# Altium integrated library TI_Logic_Specialty_Logic.IntLib: 2504 symbols (part 68 of 81)
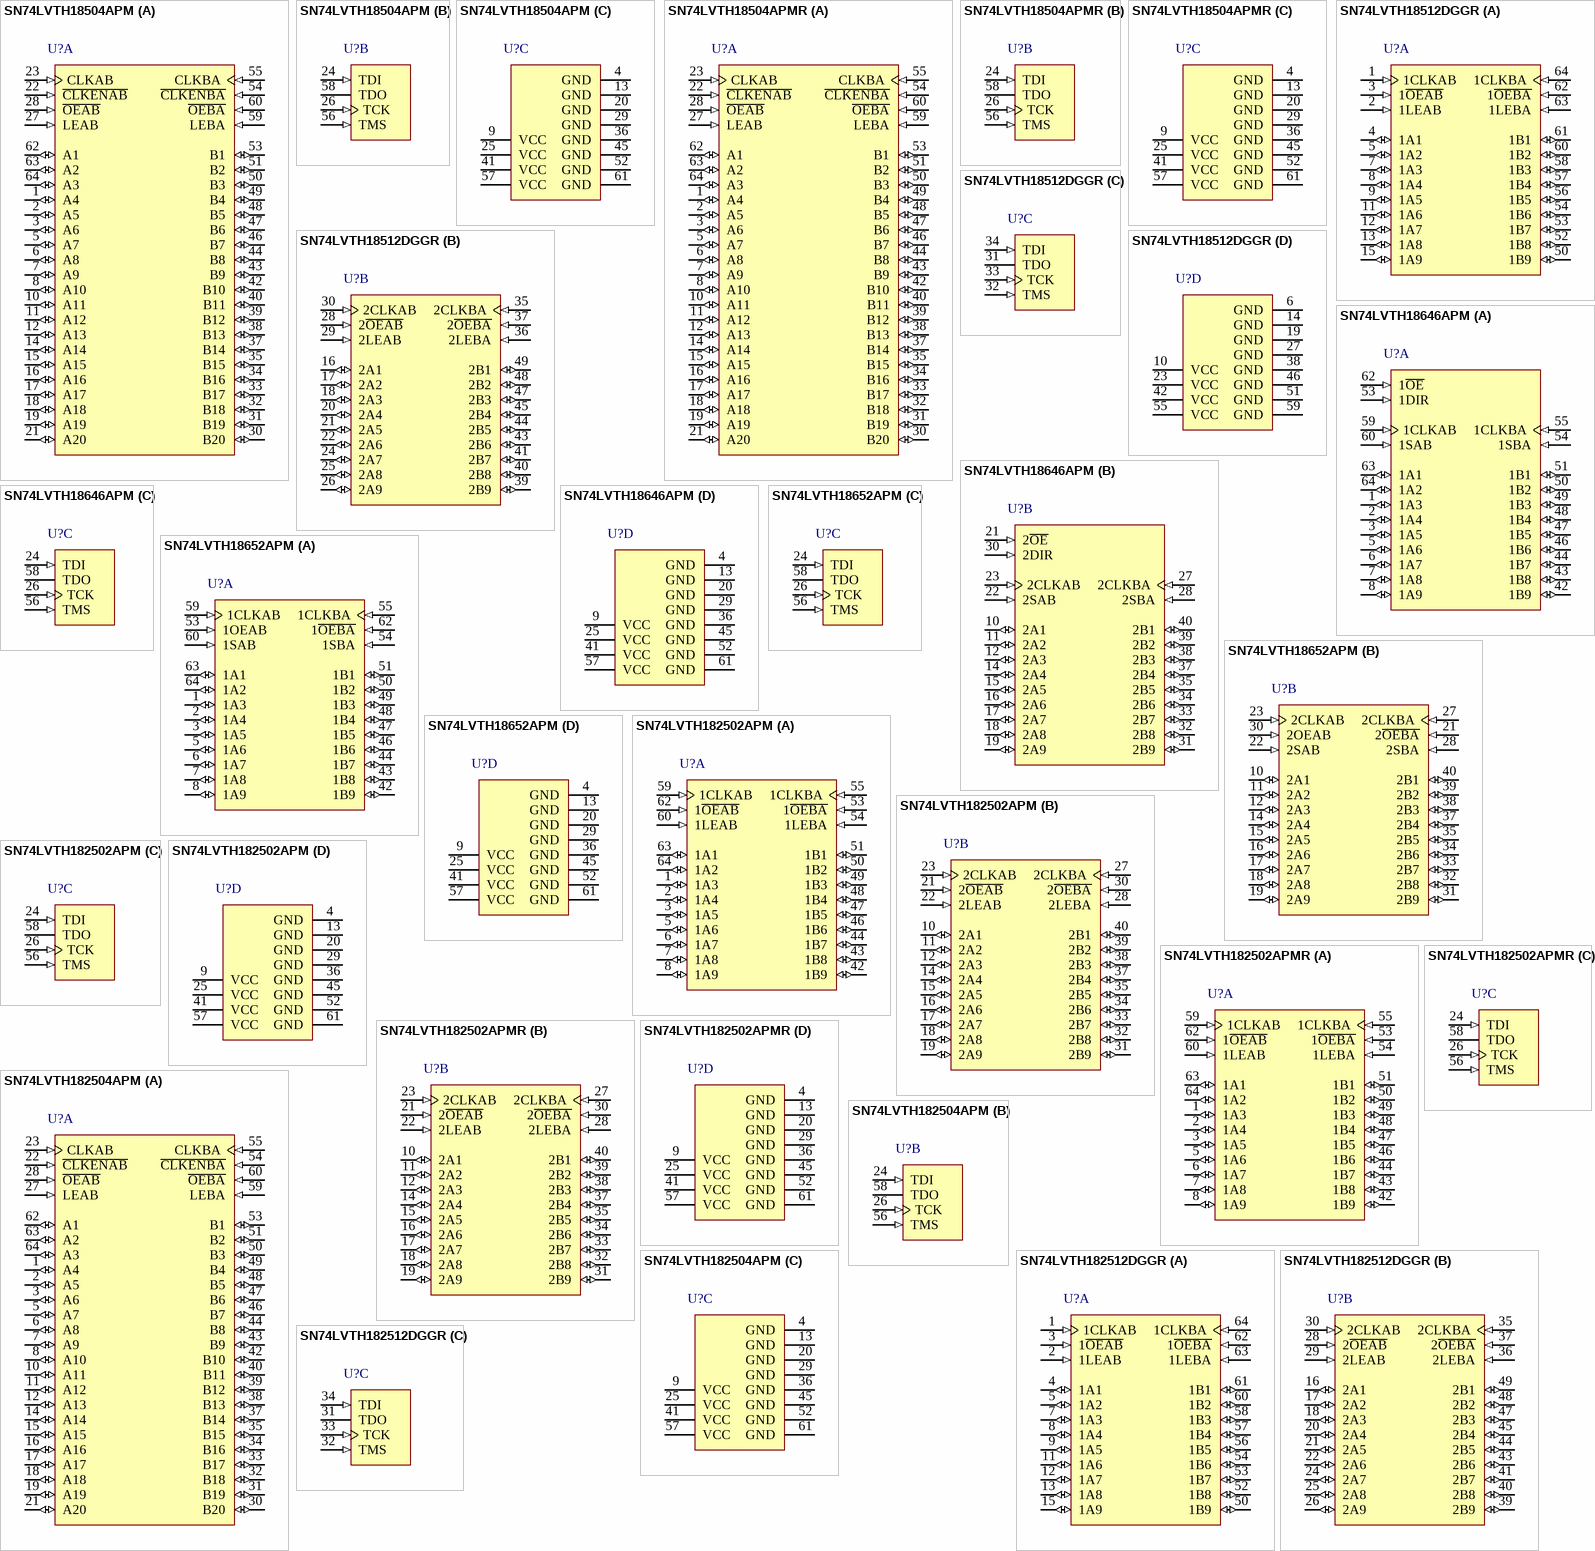
[diagram p171: symbols SN74LVTH18504APM to SN74LVTH182512DGGR]

## SN74LVTH182504APM
designator U?
3.3-V ABT Scan Test Devices With 20-Bit Universal Bus Transceivers, PM0064A, JEDEC TRAY (10+1); Generic Part Number: SN74LVTH182504A; Manufacturer: Texas Instruments; PartNumber: SN74LVTH182504APM; VCC(Min)(V): 2.7; VCC(Max)(V): 3.6; Output Type: TTL; ICC @ Nom Voltage(Max)(mA): 27; Bits(#): 20; F @ Nom Voltage(Max)(Mhz): 160; Rating: Catalog; Technology Family: LVT; Voltage(Nom)(V): 3.3; Output Drive (IOL/IOH)(Max)(mA): 64/-32; Output Logic: True; tpd @ Nom Voltage(Max)(ns): 5.9; DatasheetVersion: SCBS667B; PackageReference: PM0064A; Supplier 1: Mouser; Supplier Part Number 1: 595-SN74LVTH182504AP; Supplier 2: Digi-Key; Supplier Part Number 2: 296-8697-ND; Input Type: TTL; Operating Temperature Range(C): -40 to 85; ComponentLink1Description: Manufacturer URL; ComponentLink1URL: http://www.ti.com/; ComponentLink2Description: Datasheet; ComponentLink2URL: http://www.ti.com/lit/ds/symlink/sn74lvth182504a.pdf
footprint PM0064A_N (QFP, 64-Leads, Body 10x10mm, Pitch 0.5mm, IPC Medium Density)
footprint PM0064A_M (QFP, 64-Leads, Body 10x10mm, Pitch 0.5mm, IPC Low Density)
footprint PM0064A_L (QFP, 64-Leads, Body 10x10mm, Pitch 0.5mm, IPC High Density)
part A pins: 1 A4 (io) "Normal-function A-bus I/O ports. See function table for normal-mode logic.", 2 A5 (io) "Normal-function A-bus I/O ports. See function table for normal-mode logic.", 3 A6 (io) "Normal-function A-bus I/O ports. See function table for normal-mode logic.", 5 A7 (io) "Normal-function A-bus I/O ports. See function table for normal-mode logic.", 6 A8 (io) "Normal-function A-bus I/O ports. See function table for normal-mode logic.", 7 A9 (io) "Normal-function A-bus I/O ports. See function table for normal-mode logic.", 8 A10 (io) "Normal-function A-bus I/O ports. See function table for normal-mode logic.", 10 A11 (io) "Normal-function A-bus I/O ports. See function table for normal-mode logic.", 11 A12 (io) "Normal-function A-bus I/O ports. See function table for normal-mode logic.", 12 A13 (io) "Normal-function A-bus I/O ports. See function table for normal-mode logic.", 14 A14 (io) "Normal-function A-bus I/O ports. See function table for normal-mode logic.", 15 A15 (io) "Normal-function A-bus I/O ports. See function table for normal-mode logic.", 16 A16 (io) "Normal-function A-bus I/O ports. See function table for normal-mode logic.", 17 A17 (io) "Normal-function A-bus I/O ports. See function table for normal-mode logic.", 18 A18 (io) "Normal-function A-bus I/O ports. See function table for normal-mode logic.", 19 A19 (io) "Normal-function A-bus I/O ports. See function table for normal-mode logic.", 21 A20 (io) "Normal-function A-bus I/O ports. See function table for normal-mode logic.", 22 ~{CLKENAB} (in) "Normal-function clock enables. See function table for normal-mode logic", 23 CLKAB (in) "Normal-function clock inputs. See function table for normal-mode logic.", 27 LEAB (in) "Normal-function latch enables. See function table for normal-mode logic", 28 ~{OEAB} (in) "Normal-function output enables. See function table for normal-mode logic. An internal pullup at each terminal forces the terminal to a high level if left unconnected.", 30 B20 (io) "Normal-function B-bus I/O ports. See function table for normal-mode logic.", 31 B19 (io) "Normal-function B-bus I/O ports. See function table for normal-mode logic.", 32 B18 (io) "Normal-function B-bus I/O ports. See function table for normal-mode logic.", 33 B17 (io) "Normal-function B-bus I/O ports. See function table for normal-mode logic.", 34 B16 (io) "Normal-function B-bus I/O ports. See function table for normal-mode logic.", 35 B15 (io) "Normal-function B-bus I/O ports. See function table for normal-mode logic.", 37 B14 (io) "Normal-function B-bus I/O ports. See function table for normal-mode logic.", 38 B13 (io) "Normal-function B-bus I/O ports. See function table for normal-mode logic.", 39 B12 (io) "Normal-function B-bus I/O ports. See function table for normal-mode logic.", 40 B11 (io) "Normal-function B-bus I/O ports. See function table for normal-mode logic.", 42 B10 (io) "Normal-function B-bus I/O ports. See function table for normal-mode logic.", 43 B9 (io) "Normal-function B-bus I/O ports. See function table for normal-mode logic.", 44 B8 (io) "Normal-function B-bus I/O ports. See function table for normal-mode logic.", 46 B7 (io) "Normal-function B-bus I/O ports. See function table for normal-mode logic.", 47 B6 (io) "Normal-function B-bus I/O ports. See function table for normal-mode logic.", 48 B5 (io) "Normal-function B-bus I/O ports. See function table for normal-mode logic.", 49 B4 (io) "Normal-function B-bus I/O ports. See function table for normal-mode logic.", 50 B3 (io) "Normal-function B-bus I/O ports. See function table for normal-mode logic.", 51 B2 (io) "Normal-function B-bus I/O ports. See function table for normal-mode logic.", 53 B1 (io) "Normal-function B-bus I/O ports. See function table for normal-mode logic.", 54 ~{CLKENBA} (in) "Normal-function clock enables. See function table for normal-mode logic", 55 CLKBA (in) "Normal-function clock inputs. See function table for normal-mode logic.", 59 LEBA (in) "Normal-function latch enables. See function table for normal-mode logic", 60 ~{OEBA} (in) "Normal-function output enables. See function table for normal-mode logic. An internal pullup at each terminal forces the terminal to a high level if left unconnected.", 62 A1 (io) "Normal-function A-bus I/O ports. See function table for normal-mode logic.", 63 A2 (io) "Normal-function A-bus I/O ports. See function table for normal-mode logic.", 64 A3 (io) "Normal-function A-bus I/O ports. See function table for normal-mode logic."
part B pins: 24 TDI (in) "Test data input. One of four terminals required by IEEE Std 1149.1-1990. TDI is the serial input for shifting data through the instruction register or selected data register. An internal pullup forces TDI to a high level if (See Datasheet)", 26 TCK (in) "Test clock. One of four terminals required by IEEE Std 1149.1-1990. Test operations of the device are synchronous to TCK. Data is captured on the rising edge of TCK and outputs change on the falling edge of TCK.", 56 TMS (in) "Test mode select. One of four terminals required by IEEE Std 1149.1-1990. TMS directs the device through its TAP controller states. An internal pullup forces TMS to a high level if left unconnected.", 58 TDO (hiz) "Test data output. One of four terminals required by IEEE Std 1149.1-1990. TDO is the serial output for shifting data through the instruction register or selected data register."
part C pins: 4 GND (power) "Ground", 9 VCC (power) "Supply voltage", 13 GND (power) "Ground", 20 GND (power) "Ground", 25 VCC (power) "Supply voltage", 29 GND (power) "Ground", 36 GND (power) "Ground", 41 VCC (power) "Supply voltage", 45 GND (power) "Ground", 52 GND (power) "Ground", 57 VCC (power) "Supply voltage", 61 GND (power) "Ground"

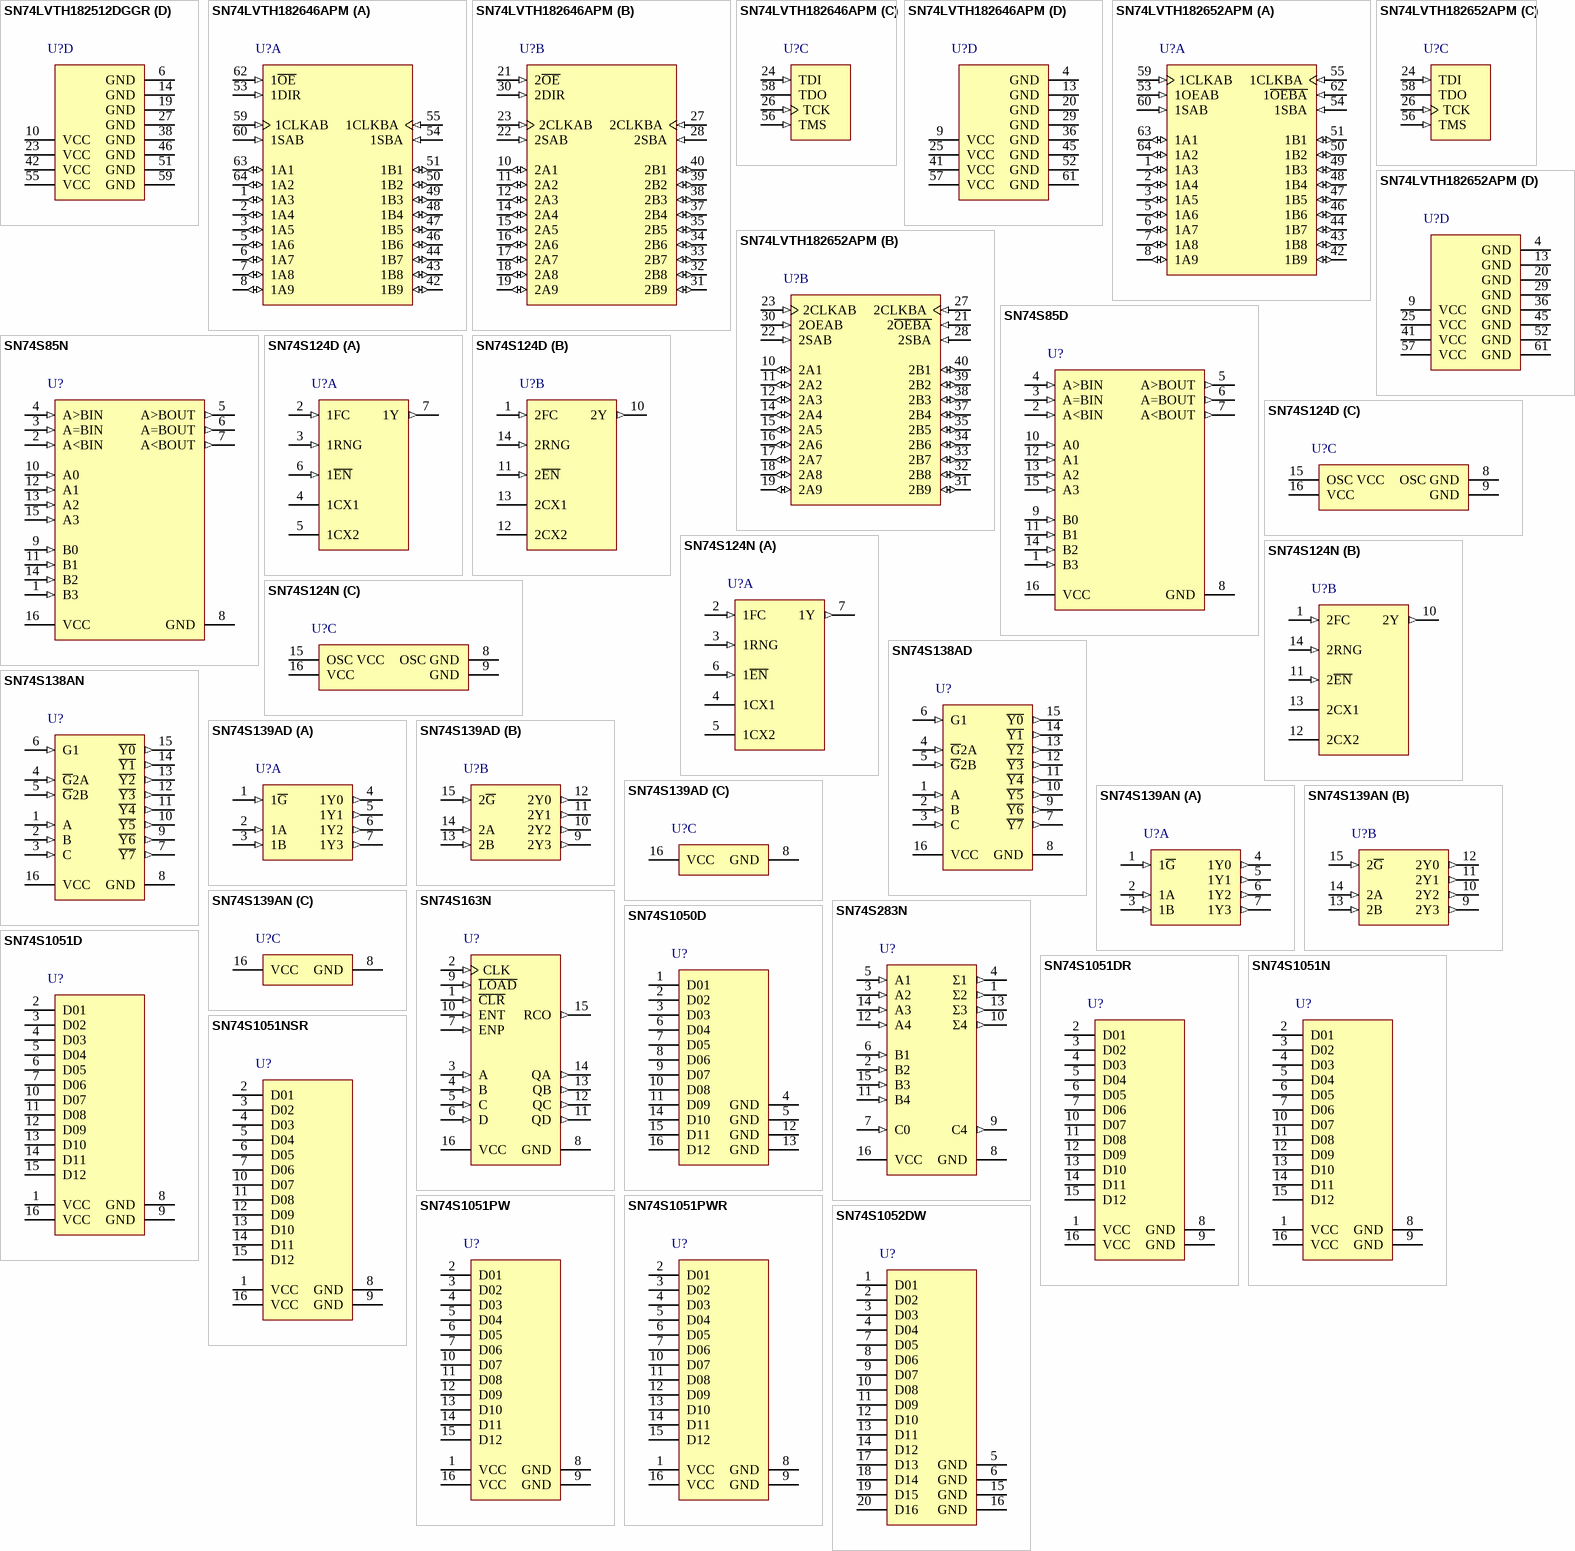
[diagram p84: symbols SN74LVTH182512DGGR to SN74S1052DW]

## SN74LVTH182512DGGR
designator U?
3.3-V ABT Scan Test Devices With 18-Bit Universal Bus Transceivers, DGG0064A, LARGE T&R; Generic Part Number: SN74LVTH182512; Manufacturer: Texas Instruments; PartNumber: SN74LVTH182512DGGR; VCC(Min)(V): 2.7; VCC(Max)(V): 3.6; Output Type: TTL; ICC @ Nom Voltage(Max)(mA): 24; Bits(#): 18; F @ Nom Voltage(Max)(Mhz): 160; Rating: Catalog; Technology Family: LVT; Voltage(Nom)(V): 3.3; Output Drive (IOL/IOH)(Max)(mA): 64/-32; Output Logic: True; tpd @ Nom Voltage(Max)(ns): 5.7; DatasheetVersion: SCBS671B; PackageReference: DGG0064A; Supplier 1: Mouser; Supplier Part Number 1: 595-SN74LVTH182512DG; Supplier 2: Digi-Key; Supplier Part Number 2: 296-8698-2-ND; Supplier 3: Digi-Key; Supplier Part Number 3: 296-8698-1-ND; Supplier 4: Digi-Key; Supplier Part Number 4: 296-8698-6-ND; Input Type: TTL; Operating Temperature Range(C): -40 to 85; ComponentLink1Description: Manufacturer URL; ComponentLink1URL: http://www.ti.com/; ComponentLink2Description: Datasheet; ComponentLink2URL: http://www.ti.com/lit/ds/symlink/sn74lvth182512.pdf
footprint DGG0064A_N (TSSOP, 64-Leads, Body 17.1x6.2mm, Pitch 0.5mm, IPC Medium Density)
footprint DGG0064A_M (TSSOP, 64-Leads, Body 17.1x6.2mm, Pitch 0.5mm, IPC Low Density)
footprint DGG0064A_L (TSSOP, 64-Leads, Body 17.1x6.2mm, Pitch 0.5mm, IPC High Density)
part A pins: 1 1CLKAB (in) "Normal-function clock inputs. See function table for normal-mode logic.", 2 1LEAB (in) "Normal-function latch enables. See function table for normal-mode logic", 3 1~{OEAB} (in) "Normal-function output enables. See function table for normal-mode logic. An internal pullup at each terminal forces the terminal to a high level if left unconnected.", 4 1A1 (io) "Normal-function A-bus I/O ports. See function table for normal-mode logic.", 5 1A2 (io) "Normal-function A-bus I/O ports. See function table for normal-mode logic.", 7 1A3 (io) "Normal-function A-bus I/O ports. See function table for normal-mode logic.", 8 1A4 (io) "Normal-function A-bus I/O ports. See function table for normal-mode logic.", 9 1A5 (io) "Normal-function A-bus I/O ports. See function table for normal-mode logic.", 11 1A6 (io) "Normal-function A-bus I/O ports. See function table for normal-mode logic.", 12 1A7 (io) "Normal-function A-bus I/O ports. See function table for normal-mode logic.", 13 1A8 (io) "Normal-function A-bus I/O ports. See function table for normal-mode logic.", 15 1A9 (io) "Normal-function A-bus I/O ports. See function table for normal-mode logic.", 50 1B9 (io) "Normal-function B-bus I/O ports. See function table for normal-mode logic.", 52 1B8 (io) "Normal-function B-bus I/O ports. See function table for normal-mode logic.", 53 1B7 (io) "Normal-function B-bus I/O ports. See function table for normal-mode logic.", 54 1B6 (io) "Normal-function B-bus I/O ports. See function table for normal-mode logic.", 56 1B5 (io) "Normal-function B-bus I/O ports. See function table for normal-mode logic.", 57 1B4 (io) "Normal-function B-bus I/O ports. See function table for normal-mode logic.", 58 1B3 (io) "Normal-function B-bus I/O ports. See function table for normal-mode logic.", 60 1B2 (io) "Normal-function B-bus I/O ports. See function table for normal-mode logic.", 61 1B1 (io) "Normal-function B-bus I/O ports. See function table for normal-mode logic.", 62 1~{OEBA} (in) "Normal-function output enables. See function table for normal-mode logic. An internal pullup at each terminal forces the terminal to a high level if left unconnected.", 63 1LEBA (in) "Normal-function latch enables. See function table for normal-mode logic", 64 1CLKBA (in) "Normal-function clock inputs. See function table for normal-mode logic."
part B pins: 16 2A1 (io) "Normal-function A-bus I/O ports. See function table for normal-mode logic.", 17 2A2 (io) "Normal-function A-bus I/O ports. See function table for normal-mode logic.", 18 2A3 (io) "Normal-function A-bus I/O ports. See function table for normal-mode logic.", 20 2A4 (io) "Normal-function A-bus I/O ports. See function table for normal-mode logic.", 21 2A5 (io) "Normal-function A-bus I/O ports. See function table for normal-mode logic.", 22 2A6 (io) "Normal-function A-bus I/O ports. See function table for normal-mode logic.", 24 2A7 (io) "Normal-function A-bus I/O ports. See function table for normal-mode logic.", 25 2A8 (io) "Normal-function A-bus I/O ports. See function table for normal-mode logic.", 26 2A9 (io) "Normal-function A-bus I/O ports. See function table for normal-mode logic.", 28 2~{OEAB} (in) "Normal-function output enables. See function table for normal-mode logic. An internal pullup at each terminal forces the terminal to a high level if left unconnected.", 29 2LEAB (in) "Normal-function latch enables. See function table for normal-mode logic", 30 2CLKAB (in) "Normal-function clock inputs. See function table for normal-mode logic.", 35 2CLKBA (in) "Normal-function clock inputs. See function table for normal-mode logic.", 36 2LEBA (in) "Normal-function latch enables. See function table for normal-mode logic", 37 2~{OEBA} (in) "Normal-function output enables. See function table for normal-mode logic. An internal pullup at each terminal forces the terminal to a high level if left unconnected.", 39 2B9 (io) "Normal-function B-bus I/O ports. See function table for normal-mode logic.", 40 2B8 (io) "Normal-function B-bus I/O ports. See function table for normal-mode logic.", 41 2B7 (io) "Normal-function B-bus I/O ports. See function table for normal-mode logic.", 43 2B6 (io) "Normal-function B-bus I/O ports. See function table for normal-mode logic.", 44 2B5 (io) "Normal-function B-bus I/O ports. See function table for normal-mode logic.", 45 2B4 (io) "Normal-function B-bus I/O ports. See function table for normal-mode logic.", 47 2B3 (io) "Normal-function B-bus I/O ports. See function table for normal-mode logic.", 48 2B2 (io) "Normal-function B-bus I/O ports. See function table for normal-mode logic.", 49 2B1 (io) "Normal-function B-bus I/O ports. See function table for normal-mode logic."
part C pins: 31 TDO (hiz) "Test data output. One of four terminals required by IEEE Std 1149.1-1990. TDO is the serial output for shifting data through the instruction register or selected data register.", 32 TMS (in) "Test mode select. One of four terminals required by IEEE Std 1149.1-1990. TMS directs the device through its TAP controller states. An internal pullup forces TMS to a high level if left unconnected.", 33 TCK (in) "Test clock. One of four terminals required by IEEE Std 1149.1-1990. Test operations of the device are synchronous to TCK. Data is captured on the rising edge of TCK and outputs change on the falling edge of TCK", 34 TDI (in) "Test data input. One of four terminals required by IEEE Std 1149.1-1990. TDI is the serial input for shifting data through the instruction register or selected data register. An internal pullup forces TDI to a high level if (See Datasheet)"
part D pins: 6 GND (power), 10 VCC (power) "Supply voltage", 14 GND (power), 19 GND (power), 23 VCC (power) "Supply voltage", 27 GND (power), 38 GND (power), 42 VCC (power) "Supply voltage", 46 GND (power), 51 GND (power), 55 VCC (power) "Supply voltage", 59 GND (power)

## SN74LVTH182646APM
designator U?
3.3-V ABT Scan Test Devices With 18-Bit Transceivers And Registers, PM0064A, JEDEC TRAY (10+1); Generic Part Number: SN74LVTH182646A; Manufacturer: Texas Instruments; PartNumber: SN74LVTH182646APM; VCC(Min)(V): 2.7; VCC(Max)(V): 3.6; Output Type: TTL; ICC @ Nom Voltage(Max)(mA): 24; Bits(#): 18; F @ Nom Voltage(Max)(Mhz): 160; Rating: Catalog; Technology Family: LVT; Voltage(Nom)(V): 3.3; Output Drive (IOL/IOH)(Max)(mA): 64/-32; Output Logic: True; tpd @ Nom Voltage(Max)(ns): 4.7; DatasheetVersion: SCBS311D; PackageReference: PM0064A; Supplier 1: Mouser; Supplier Part Number 1: 595-SNLVTH182646APM; Supplier 2: Digi-Key; Supplier Part Number 2: SN74LVTH182646APM-ND; Input Type: TTL; Operating Temperature Range(C): -40 to 85; ComponentLink1Description: Manufacturer URL; ComponentLink1URL: http://www.ti.com/; ComponentLink2Description: Datasheet; ComponentLink2URL: http://www.ti.com/lit/ds/symlink/sn74lvth182646a.pdf
footprint PM0064A_N (QFP, 64-Leads, Body 10x10mm, Pitch 0.5mm, IPC Medium Density)
footprint PM0064A_M (QFP, 64-Leads, Body 10x10mm, Pitch 0.5mm, IPC Low Density)
footprint PM0064A_L (QFP, 64-Leads, Body 10x10mm, Pitch 0.5mm, IPC High Density)
part A pins: 1 1A3 (io) "Normal-function A-bus I/O ports. See function table for normal-mode logic.", 2 1A4 (io) "Normal-function A-bus I/O ports. See function table for normal-mode logic.", 3 1A5 (io) "Normal-function A-bus I/O ports. See function table for normal-mode logic.", 5 1A6 (io) "Normal-function A-bus I/O ports. See function table for normal-mode logic.", 6 1A7 (io) "Normal-function A-bus I/O ports. See function table for normal-mode logic.", 7 1A8 (io) "Normal-function A-bus I/O ports. See function table for normal-mode logic.", 8 1A9 (io) "Normal-function A-bus I/O ports. See function table for normal-mode logic.", 42 1B9 (io) "Normal-function B-bus I/O ports. See function table for normal-mode logic.", 43 1B8 (io) "Normal-function B-bus I/O ports. See function table for normal-mode logic.", 44 1B7 (io) "Normal-function B-bus I/O ports. See function table for normal-mode logic.", 46 1B6 (io) "Normal-function B-bus I/O ports. See function table for normal-mode logic.", 47 1B5 (io) "Normal-function B-bus I/O ports. See function table for normal-mode logic.", 48 1B4 (io) "Normal-function B-bus I/O ports. See function table for normal-mode logic.", 49 1B3 (io) "Normal-function B-bus I/O ports. See function table for normal-mode logic.", 50 1B2 (io) "Normal-function B-bus I/O ports. See function table for normal-mode logic.", 51 1B1 (io) "Normal-function B-bus I/O ports. See function table for normal-mode logic.", 53 1DIR (in) "Normal-function direction controls. See function table for normal-mode logic.", 54 1SBA (in) "Normal-function select controls. See function table for normal-mode logic.", 55 1CLKBA (in) "Normal-function clock inputs. See function table for normal-mode logic.", 59 1CLKAB (in) "Normal-function clock inputs. See function table for normal-mode logic.", 60 1SAB (in) "Normal-function select controls. See function table for normal-mode logic.", 62 1~{OE} (in) "Normal-function output enables. See function table for normal-mode logic. An internal pullup at each terminal forces the terminal to a high level if left unconnected.", 63 1A1 (io) "Normal-function A-bus I/O ports. See function table for normal-mode logic.", 64 1A2 (io) "Normal-function A-bus I/O ports. See function table for normal-mode logic."
part B pins: 10 2A1 (io) "Normal-function A-bus I/O ports. See function table for normal-mode logic.", 11 2A2 (io) "Normal-function A-bus I/O ports. See function table for normal-mode logic.", 12 2A3 (io) "Normal-function A-bus I/O ports. See function table for normal-mode logic.", 14 2A4 (io) "Normal-function A-bus I/O ports. See function table for normal-mode logic.", 15 2A5 (io) "Normal-function A-bus I/O ports. See function table for normal-mode logic.", 16 2A6 (io) "Normal-function A-bus I/O ports. See function table for normal-mode logic.", 17 2A7 (io) "Normal-function A-bus I/O ports. See function table for normal-mode logic.", 18 2A8 (io) "Normal-function A-bus I/O ports. See function table for normal-mode logic.", 19 2A9 (io) "Normal-function A-bus I/O ports. See function table for normal-mode logic.", 21 2~{OE} (in) "Normal-function output enables. See function table for normal-mode logic. An internal pullup at each terminal forces the terminal to a high level if left unconnected.", 22 2SAB (in) "Normal-function select controls. See function table for normal-mode logic.", 23 2CLKAB (in) "Normal-function clock inputs. See function table for normal-mode logic.", 27 2CLKBA (in) "Normal-function clock inputs. See function table for normal-mode logic.", 28 2SBA (in) "Normal-function select controls. See function table for normal-mode logic.", 30 2DIR (in) "Normal-function direction controls. See function table for normal-mode logic.", 31 2B9 (io) "Normal-function B-bus I/O ports. See function table for normal-mode logic.", 32 2B8 (io) "Normal-function B-bus I/O ports. See function table for normal-mode logic.", 33 2B7 (io) "Normal-function B-bus I/O ports. See function table for normal-mode logic.", 34 2B6 (io) "Normal-function B-bus I/O ports. See function table for normal-mode logic.", 35 2B5 (io) "Normal-function B-bus I/O ports. See function table for normal-mode logic.", 37 2B4 (io) "Normal-function B-bus I/O ports. See function table for normal-mode logic.", 38 2B3 (io) "Normal-function B-bus I/O ports. See function table for normal-mode logic.", 39 2B2 (io) "Normal-function B-bus I/O ports. See function table for normal-mode logic.", 40 2B1 (io) "Normal-function B-bus I/O ports. See function table for normal-mode logic."
part C pins: 24 TDI (in) "Test data input. One of four terminals required by IEEE Std 1149.1-1990. TDI is the serial input for shifting data through the instruction register or selected data register. An internal pullup forces TDI to a high level if (See Datasheet)", 26 TCK (in) "Test clock. One of four terminals required by IEEE Std 1149.1-1990. Test operations of the device are synchronous to TCK. Data is captured on the rising edge of TCK and outputs change on the falling edge of TCK.", 56 TMS (in) "Test mode select. One of four terminals required by IEEE Std 1149.1-1990. TMS directs the device through its TAP controller states. An internal pullup forces TMS to a high level if left unconnected.", 58 TDO (hiz) "Test data output. One of four terminals required by IEEE Std 1149.1-1990. TDO is the serial output for shifting data through the instruction register or selected data register."
part D pins: 4 GND (power), 9 VCC (power) "Supply voltage", 13 GND (power), 20 GND (power), 25 VCC (power) "Supply voltage", 29 GND (power), 36 GND (power), 41 VCC (power) "Supply voltage", 45 GND (power), 52 GND (power), 57 VCC (power) "Supply voltage", 61 GND (power)

## SN74LVTH182652APM
designator U?
3.3-V ABT Scan Test Devices With 18-Bit Transceivers And Registers, PM0064A, JEDEC TRAY (10+1); Generic Part Number: SN74LVTH182652A; Manufacturer: Texas Instruments; PartNumber: SN74LVTH182652APM; VCC(Min)(V): 2.7; VCC(Max)(V): 3.6; Output Type: TTL; ICC @ Nom Voltage(Max)(mA): 24; Bits(#): 18; F @ Nom Voltage(Max)(Mhz): 160; Rating: Catalog; Technology Family: LVT; Voltage(Nom)(V): 3.3; Output Drive (IOL/IOH)(Max)(mA): 64/-32; Output Logic: True; tpd @ Nom Voltage(Max)(ns): 4.7; DatasheetVersion: SCBS312C; PackageReference: PM0064A; Supplier 1: Mouser; Supplier Part Number 1: 595-SN74LVTH182652AP; Supplier 2: Digi-Key; Supplier Part Number 2: 296-14323-ND; Input Type: TTL; Operating Temperature Range(C): -40 to 85; ComponentLink1Description: Manufacturer URL; ComponentLink1URL: http://www.ti.com/; ComponentLink2Description: Datasheet; ComponentLink2URL: http://www.ti.com/lit/ds/symlink/sn74lvth182652a.pdf
footprint PM0064A_N (QFP, 64-Leads, Body 10x10mm, Pitch 0.5mm, IPC Medium Density)
footprint PM0064A_M (QFP, 64-Leads, Body 10x10mm, Pitch 0.5mm, IPC Low Density)
footprint PM0064A_L (QFP, 64-Leads, Body 10x10mm, Pitch 0.5mm, IPC High Density)
part A pins: 1 1A3 (io) "Normal-function A-bus I/O ports. See function table for normal-mode logic.", 2 1A4 (io) "Normal-function A-bus I/O ports. See function table for normal-mode logic.", 3 1A5 (io) "Normal-function A-bus I/O ports. See function table for normal-mode logic.", 5 1A6 (io) "Normal-function A-bus I/O ports. See function table for normal-mode logic.", 6 1A7 (io) "Normal-function A-bus I/O ports. See function table for normal-mode logic.", 7 1A8 (io) "Normal-function A-bus I/O ports. See function table for normal-mode logic.", 8 1A9 (io) "Normal-function A-bus I/O ports. See function table for normal-mode logic.", 42 1B9 (io) "Normal-function B-bus I/O ports. See function table for normal-mode logic.", 43 1B8 (io) "Normal-function B-bus I/O ports. See function table for normal-mode logic.", 44 1B7 (io) "Normal-function B-bus I/O ports. See function table for normal-mode logic.", 46 1B6 (io) "Normal-function B-bus I/O ports. See function table for normal-mode logic.", 47 1B5 (io) "Normal-function B-bus I/O ports. See function table for normal-mode logic.", 48 1B4 (io) "Normal-function B-bus I/O ports. See function table for normal-mode logic.", 49 1B3 (io) "Normal-function B-bus I/O ports. See function table for normal-mode logic.", 50 1B2 (io) "Normal-function B-bus I/O ports. See function table for normal-mode logic.", 51 1B1 (io) "Normal-function B-bus I/O ports. See function table for normal-mode logic.", 53 1OEAB (in) "Normal-function active-high output enables. See function table for normal-mode logic. An internal pulldown at each terminal forces the terminal to a low level if left unconnected.", 54 1SBA (in) "Normal-function select controls. See function table for normal-mode logic.", 55 1CLKBA (in) "Normal-function clock inputs. See function table for normal-mode logic.", 59 1CLKAB (in) "Normal-function clock inputs. See function table for normal-mode logic.", 60 1SAB (in) "Normal-function select controls. See function table for normal-mode logic.", 62 1~{OEBA} (in) "Normal-function active-low output enables. See function table for normal-mode logic. An internal pullup at each terminal forces the terminal to a high level if left unconnected.", 63 1A1 (io) "Normal-function A-bus I/O ports. See function table for normal-mode logic.", 64 1A2 (io) "Normal-function A-bus I/O ports. See function table for normal-mode logic."
part B pins: 10 2A1 (io) "Normal-function A-bus I/O ports. See function table for normal-mode logic.", 11 2A2 (io) "Normal-function A-bus I/O ports. See function table for normal-mode logic.", 12 2A3 (io) "Normal-function A-bus I/O ports. See function table for normal-mode logic.", 14 2A4 (io) "Normal-function A-bus I/O ports. See function table for normal-mode logic.", 15 2A5 (io) "Normal-function A-bus I/O ports. See function table for normal-mode logic.", 16 2A6 (io) "Normal-function A-bus I/O ports. See function table for normal-mode logic.", 17 2A7 (io) "Normal-function A-bus I/O ports. See function table for normal-mode logic.", 18 2A8 (io) "Normal-function A-bus I/O ports. See function table for normal-mode logic.", 19 2A9 (io) "Normal-function A-bus I/O ports. See function table for normal-mode logic.", 21 2~{OEBA} (in) "Normal-function active-low output enables. See function table for normal-mode logic. An internal pullup at each terminal forces the terminal to a high level if left unconnected.", 22 2SAB (in) "Normal-function select controls. See function table for normal-mode logic.", 23 2CLKAB (in) "Normal-function clock inputs. See function table for normal-mode logic.", 27 2CLKBA (in) "Normal-function clock inputs. See function table for normal-mode logic.", 28 2SBA (in) "Normal-function select controls. See function table for normal-mode logic.", 30 2OEAB (in) "Normal-function active-high output enables. See function table for normal-mode logic. An internal pulldown at each terminal forces the terminal to a low level if left unconnected.", 31 2B9 (io) "Normal-function B-bus I/O ports. See function table for normal-mode logic.", 32 2B8 (io) "Normal-function B-bus I/O ports. See function table for normal-mode logic.", 33 2B7 (io) "Normal-function B-bus I/O ports. See function table for normal-mode logic.", 34 2B6 (io) "Normal-function B-bus I/O ports. See function table for normal-mode logic.", 35 2B5 (io) "Normal-function B-bus I/O ports. See function table for normal-mode logic.", 37 2B4 (io) "Normal-function B-bus I/O ports. See function table for normal-mode logic.", 38 2B3 (io) "Normal-function B-bus I/O ports. See function table for normal-mode logic.", 39 2B2 (io) "Normal-function B-bus I/O ports. See function table for normal-mode logic.", 40 2B1 (io) "Normal-function B-bus I/O ports. See function table for normal-mode logic."
part C pins: 24 TDI (in) "Test data input. One of four terminals required by IEEE Std 1149.1-1990. TDI is the serial input for shifting data through the instruction register or selected data register. An internal pullup forces TDI to a high level if (See Datasheet)", 26 TCK (in) "Test clock. One of four terminals required by IEEE Std 1149.1-1990. Test operations of the device are synchronous TCK. Data is captured on the rising edge of TCK and outputs change on the falling edge of TCK.", 56 TMS (in) "Test mode select. One of four terminals required by IEEE Std 1149.1-1990. TMS directs the device through its TAP controller states. An internal pullup forces TMS to a high level if left unconnected.", 58 TDO (hiz) "Test data output. One of four terminals required by IEEE Std 1149.1-1990. TDO is the serial output for shifting data through the instruction register or selected data register."
part D pins: 4 GND (power) "Ground", 9 VCC (power) "Supply voltage", 13 GND (power) "Ground", 20 GND (power) "Ground", 25 VCC (power) "Supply voltage", 29 GND (power) "Ground", 36 GND (power) "Ground", 41 VCC (power) "Supply voltage", 45 GND (power) "Ground", 52 GND (power) "Ground", 57 VCC (power) "Supply voltage", 61 GND (power) "Ground"

## SN74S85D
designator U?
4-bit magnitude comparators, D0016A, TUBE; Generic Part Number: SN74S85; Manufacturer: Texas Instruments; PartNumber: SN74S85D; VCC(Min)(V): 4.75; VCC(Max)(V): 5.25; Output Type: TTL; ICC @ Nom Voltage(Max)(mA): 110; Bits(#): 4; F @ Nom Voltage(Max)(Mhz): 50; Rating: Catalog; Technology Family: S; Voltage(Nom)(V): 5; Schmitt Trigger: No; Output Drive (IOL/IOH)(Max)(mA): 20/-1; tpd @ Nom Voltage(Max)(ns): 18; DatasheetVersion: SDLS123; PackageReference: D0016A; Supplier 1: Mouser; Supplier Part Number 1: 595-SN74S85D; Supplier 2: Digi-Key; Supplier Part Number 2: 296-34116-5-ND; Input Type: TTL; Operating Temperature Range(C): 0 to 70; ComponentLink1Description: Manufacturer URL; ComponentLink1URL: http://www.ti.com/; ComponentLink2Description: Datasheet; ComponentLink2URL: http://www.ti.com/lit/ds/symlink/sn74s85.pdf
footprint D0016A_N (SOIC, 16-Leads, Body 10x4mm, Pitch 1.27mm, IPC Medium Density)
footprint D0016A_M (SOIC, 16-Leads, Body 10x4mm, Pitch 1.27mm, IPC Low Density)
footprint D0016A_L (SOIC, 16-Leads, Body 10x4mm, Pitch 1.27mm, IPC High Density)
pins: 1 B3 (in), 2 A<BIN (in), 3 A=BIN (in), 4 A>BIN (in), 5 A>BOUT (out), 6 A=BOUT (out), 7 A<BOUT (out), 8 GND (power), 9 B0 (in), 10 A0 (in), 11 B1 (in), 12 A1 (in), 13 A2 (in), 14 B2 (in), 15 A3 (in), 16 VCC (power)

## SN74S85N
designator U?
4-bit magnitude comparators, N0016A, TUBE; Generic Part Number: SN74S85; Manufacturer: Texas Instruments; PartNumber: SN74S85N; VCC(Min)(V): 4.75; VCC(Max)(V): 5.25; Output Type: TTL; ICC @ Nom Voltage(Max)(mA): 110; Bits(#): 4; F @ Nom Voltage(Max)(Mhz): 50; Rating: Catalog; Technology Family: S; Voltage(Nom)(V): 5; Schmitt Trigger: No; Output Drive (IOL/IOH)(Max)(mA): 20/-1; tpd @ Nom Voltage(Max)(ns): 18; DatasheetVersion: SDLS123; PackageReference: N0016A; Supplier 1: Mouser; Supplier Part Number 1: 595-SN74S85N; Supplier 2: Digi-Key; Supplier Part Number 2: 296-3874-5-ND; Input Type: TTL; Operating Temperature Range(C): 0 to 70; ComponentLink1Description: Manufacturer URL; ComponentLink1URL: http://www.ti.com/; ComponentLink2Description: Datasheet; ComponentLink2URL: http://www.ti.com/lit/ds/symlink/sn74s85.pdf
footprint N0016A (DIP, 16-Leads, Body 19.7x6.6mm, Pitch 2.54mm)
pins: 1 B3 (in), 2 A<BIN (in), 3 A=BIN (in), 4 A>BIN (in), 5 A>BOUT (out), 6 A=BOUT (out), 7 A<BOUT (out), 8 GND (power), 9 B0 (in), 10 A0 (in), 11 B1 (in), 12 A1 (in), 13 A2 (in), 14 B2 (in), 15 A3 (in), 16 VCC (power)

## SN74S124D
designator U?
Dual Voltage-Controlled Oscillators, D0016A, TUBE; Generic Part Number: SN74S124; Manufacturer: Texas Instruments; PartNumber: SN74S124D; VCC(Min)(V): 4.75; VCC(Max)(V): 5.25; Output Type: TTL; ICC @ Nom Voltage(Max)(mA): 150; Bits(#): 2; F @ Nom Voltage(Max)(Mhz): 50; Rating: Catalog; Technology Family: S; Voltage(Nom)(V): 5; Schmitt Trigger: No; Output Drive (IOL/IOH)(Max)(mA): 20/-1; tpd @ Nom Voltage(Max)(ns): 70; DatasheetVersion: SDLS201A; PackageReference: D0016A; Supplier 1: Mouser; Supplier Part Number 1: 595-SN74S124D; Supplier 2: Digi-Key; Supplier Part Number 2: 296-34103-5-ND; Input Type: TTL; Operating Temperature Range(C): 0 to 70; ComponentLink1Description: Manufacturer URL; ComponentLink1URL: http://www.ti.com/; ComponentLink2Description: Datasheet; ComponentLink2URL: http://www.ti.com/lit/ds/symlink/sn74s124.pdf
footprint D0016A_N (SOIC, 16-Leads, Body 10x4mm, Pitch 1.27mm, IPC Medium Density)
footprint D0016A_M (SOIC, 16-Leads, Body 10x4mm, Pitch 1.27mm, IPC Low Density)
footprint D0016A_L (SOIC, 16-Leads, Body 10x4mm, Pitch 1.27mm, IPC High Density)
part A pins: 2 1FC (in), 3 1RNG (in), 4 1CX1, 5 1CX2, 6 1~{EN} (in), 7 1Y (out)
part B pins: 1 2FC (in), 10 2Y (out), 11 2~{EN} (in), 12 2CX2, 13 2CX1, 14 2RNG (in)
part C pins: 8 OSC GND (power), 9 GND (power), 15 OSC VCC (power), 16 VCC (power)

## SN74S124N
designator U?
Dual Voltage-Controlled Oscillators, N0016A, TUBE; Generic Part Number: SN74S124; Manufacturer: Texas Instruments; PartNumber: SN74S124N; VCC(Min)(V): 4.75; VCC(Max)(V): 5.25; Output Type: TTL; ICC @ Nom Voltage(Max)(mA): 150; Bits(#): 2; F @ Nom Voltage(Max)(Mhz): 50; Rating: Catalog; Technology Family: S; Voltage(Nom)(V): 5; Schmitt Trigger: No; Output Drive (IOL/IOH)(Max)(mA): 20/-1; tpd @ Nom Voltage(Max)(ns): 70; DatasheetVersion: SDLS201A; PackageReference: N0016A; Supplier 1: Mouser; Supplier Part Number 1: 595-SN74S124N; Supplier 2: Digi-Key; Supplier Part Number 2: 296-3856-5-ND; Input Type: TTL; Operating Temperature Range(C): 0 to 70; ComponentLink1Description: Manufacturer URL; ComponentLink1URL: http://www.ti.com/; ComponentLink2Description: Datasheet; ComponentLink2URL: http://www.ti.com/lit/ds/symlink/sn74s124.pdf
footprint N0016A (DIP, 16-Leads, Body 19.7x6.6mm, Pitch 2.54mm)
part A pins: 2 1FC (in), 3 1RNG (in), 4 1CX1, 5 1CX2, 6 1~{EN} (in), 7 1Y (out)
part B pins: 1 2FC (in), 10 2Y (out), 11 2~{EN} (in), 12 2CX2, 13 2CX1, 14 2RNG (in)
part C pins: 8 OSC GND (power), 9 GND (power), 15 OSC VCC (power), 16 VCC (power)

## SN74S138AD
designator U?
3-line to 8-line decoder / demultiplexer, D0016A, TUBE; Generic Part Number: SN74S138A; Manufacturer: Texas Instruments; PartNumber: SN74S138AD; VCC(Min)(V): 4.75; VCC(Max)(V): 5.25; Output Type: TTL; ICC @ Nom Voltage(Max)(mA): 74; Bits(#): 8; F @ Nom Voltage(Max)(Mhz): 50; Configuration: 3：8; Channels(#): 1; Rating: Catalog; Technology Family: S; Voltage(Nom)(V): 5; Schmitt Trigger: No; Output Drive (IOL/IOH)(Max)(mA): 20/-1; tpd @ Nom Voltage(Max)(ns): 41; DatasheetVersion: SDLS014; PackageReference: D0016A; Supplier 1: Mouser; Supplier Part Number 1: 595-SN74S138AD; Supplier 2: Digi-Key; Supplier Part Number 2: 296-3859-5-ND; Function: Decoder/Demultiplexer; Input Type: TTL; Operating Temperature Range(C): 0 to 70; Type: Standard; Code_JEDEC: MS-012 variation AC; ComponentLink1Description: Manufacturer URL; ComponentLink1URL: http://www.ti.com/; ComponentLink2Description: Datasheet; ComponentLink2URL: http://www.ti.com/lit/ds/symlink/sn74s138a.pdf; ComponentLink3Description: Package Specification; ComponentLink3URL: http://www.ti.com/lit/ml/mpds178g/mpds178g.pdf
footprint D0016A_N (SOIC, 16-Leads, Body 10x4mm, Pitch 1.27mm, IPC Medium Density)
footprint D0016A_M (SOIC, 16-Leads, Body 10x4mm, Pitch 1.27mm, IPC Low Density)
footprint D0016A_L (SOIC, 16-Leads, Body 10x4mm, Pitch 1.27mm, IPC High Density)
pins: 1 A (in), 2 B (in), 3 C (in), 4 ~{G}2A (in), 5 ~{G}2B (in), 6 G1 (in), 7 ~{Y7} (out), 8 GND (power), 9 ~{Y6} (out), 10 ~{Y5} (out), 11 ~{Y4} (out), 12 ~{Y3} (out), 13 ~{Y2} (out), 14 ~{Y1} (out), 15 ~{Y0} (out), 16 VCC (power)

## SN74S138AN
designator U?
3-line to 8-line decoder / demultiplexer, N0016A, TUBE; Generic Part Number: SN74S138A; Manufacturer: Texas Instruments; PartNumber: SN74S138AN; VCC(Min)(V): 4.75; VCC(Max)(V): 5.25; Output Type: TTL; ICC @ Nom Voltage(Max)(mA): 74; Bits(#): 8; F @ Nom Voltage(Max)(Mhz): 50; Configuration: 3：8; Channels(#): 1; Rating: Catalog; Technology Family: S; Voltage(Nom)(V): 5; Schmitt Trigger: No; Output Drive (IOL/IOH)(Max)(mA): 20/-1; tpd @ Nom Voltage(Max)(ns): 41; DatasheetVersion: SDLS014; PackageReference: N0016A; Supplier 1: Mouser; Supplier Part Number 1: 595-SN74S138AN; Supplier 2: Digi-Key; Supplier Part Number 2: 296-1728-5-ND; Function: Decoder/Demultiplexer; Input Type: TTL; Operating Temperature Range(C): 0 to 70; Type: Standard; Code_JEDEC: MS-001; ComponentLink1Description: Manufacturer URL; ComponentLink1URL: http://www.ti.com/; ComponentLink2Description: Datasheet; ComponentLink2URL: http://www.ti.com/lit/ds/symlink/sn74s138a.pdf; ComponentLink3Description: Package Specification; ComponentLink3URL: http://www.ti.com/lit/ml/mpdi002c/mpdi002c.pdf
footprint N0016A (DIP, 16-Leads, Body 19.7x6.6mm, Pitch 2.54mm)
pins: 1 A (in), 2 B (in), 3 C (in), 4 ~{G}2A (in), 5 ~{G}2B (in), 6 G1 (in), 7 ~{Y7} (out), 8 GND (power), 9 ~{Y6} (out), 10 ~{Y5} (out), 11 ~{Y4} (out), 12 ~{Y3} (out), 13 ~{Y2} (out), 14 ~{Y1} (out), 15 ~{Y0} (out), 16 VCC (power)

## SN74S139AD
designator U?
Dual 2-line to 4-line decoders / demultiplexers, D0016A, TUBE; Generic Part Number: SN74S139A; Manufacturer: Texas Instruments; PartNumber: SN74S139AD; VCC(Min)(V): 4.75; VCC(Max)(V): 5.25; Output Type: TTL; Function: Decoder/Demultiplexer; ICC @ Nom Voltage(Max)(mA): 90; Bits(#): 4; F @ Nom Voltage(Max)(Mhz): 50; Configuration: 2：4; Channels(#): 2; Rating: Catalog; Technology Family: S; Voltage(Nom)(V): 5; Schmitt Trigger: No; Output Drive (IOL/IOH)(Max)(mA): 20/-1; tpd @ Nom Voltage(Max)(ns): 33; DatasheetVersion: SDLS013A; PackageReference: D0016A; Supplier 1: Mouser; Supplier Part Number 1: 595-SN74S139AD; Supplier 2: Digi-Key; Supplier Part Number 2: SN74S139AD-ND; Input Type: TTL; Operating Temperature Range(C): 0 to 70; Type: Standard; Code_JEDEC: MS-012 variation AC; ComponentLink1Description: Manufacturer URL; ComponentLink1URL: http://www.ti.com/; ComponentLink2Description: Datasheet; ComponentLink2URL: http://www.ti.com/lit/ds/symlink/sn74s139a.pdf; ComponentLink3Description: Package Specification; ComponentLink3URL: http://www.ti.com/lit/ml/mpds178g/mpds178g.pdf
footprint D0016A_N (SOIC, 16-Leads, Body 10x4mm, Pitch 1.27mm, IPC Medium Density)
footprint D0016A_M (SOIC, 16-Leads, Body 10x4mm, Pitch 1.27mm, IPC Low Density)
footprint D0016A_L (SOIC, 16-Leads, Body 10x4mm, Pitch 1.27mm, IPC High Density)
part A pins: 1 1~{G} (in), 2 1A (in), 3 1B (in), 4 1Y0 (out), 5 1Y1 (out), 6 1Y2 (out), 7 1Y3 (out)
part B pins: 9 2Y3 (out), 10 2Y2 (out), 11 2Y1 (out), 12 2Y0 (out), 13 2B (in), 14 2A (in), 15 2~{G} (in)
part C pins: 8 GND (power), 16 VCC (power)

## SN74S139AN
designator U?
Dual 2-line to 4-line decoders / demultiplexers, N0016A, TUBE; Generic Part Number: SN74S139A; Manufacturer: Texas Instruments; PartNumber: SN74S139AN; VCC(Min)(V): 4.75; VCC(Max)(V): 5.25; Output Type: TTL; Function: Decoder/Demultiplexer; ICC @ Nom Voltage(Max)(mA): 90; Bits(#): 4; F @ Nom Voltage(Max)(Mhz): 50; Configuration: 2：4; Channels(#): 2; Rating: Catalog; Technology Family: S; Voltage(Nom)(V): 5; Schmitt Trigger: No; Output Drive (IOL/IOH)(Max)(mA): 20/-1; tpd @ Nom Voltage(Max)(ns): 33; DatasheetVersion: SDLS013A; PackageReference: N0016A; Supplier 1: Mouser; Supplier Part Number 1: 595-SN74S139AN; Supplier 2: Digi-Key; Supplier Part Number 2: 296-34104-5-ND; Input Type: TTL; Operating Temperature Range(C): 0 to 70; Type: Standard; Code_JEDEC: MS-001; ComponentLink1Description: Manufacturer URL; ComponentLink1URL: http://www.ti.com/; ComponentLink2Description: Datasheet; ComponentLink2URL: http://www.ti.com/lit/ds/symlink/sn74s139a.pdf; ComponentLink3Description: Package Specification; ComponentLink3URL: http://www.ti.com/lit/ml/mpdi002c/mpdi002c.pdf
footprint N0016A (DIP, 16-Leads, Body 19.7x6.6mm, Pitch 2.54mm)
part A pins: 1 1~{G} (in), 2 1A (in), 3 1B (in), 4 1Y0 (out), 5 1Y1 (out), 6 1Y2 (out), 7 1Y3 (out)
part B pins: 9 2Y3 (out), 10 2Y2 (out), 11 2Y1 (out), 12 2Y0 (out), 13 2B (in), 14 2A (in), 15 2~{G} (in)
part C pins: 8 GND (power), 16 VCC (power)

## SN74S163N
designator U?
4-Bit Binary Counters, N0016A, TUBE; Generic Part Number: SN74S163; Manufacturer: Texas Instruments; PartNumber: SN74S163N; VCC(Min)(V): 4.75; VCC(Max)(V): 5.25; Output Type: CMOS; Inputs: 1; ICC @ Nom Voltage(Max)(mA): 160; Input Type: TTL; Bits(#): 4; F @ Nom Voltage(Max)(Mhz): 50; Rating: Catalog; Technology Family: S; Voltage(Nom)(V): 5; Schmitt Trigger: No; Output Drive (IOL/IOH)(Max)(mA): 20/-1; tpd @ Nom Voltage(Max)(ns): 25; DatasheetVersion: SDLS060; PackageReference: N0016A; Supplier 1: Mouser; Supplier Part Number 1: 595-SN74S163N; Supplier 2: Digi-Key; Supplier Part Number 2: 296-3863-5-ND; Function: Counter; Operating Temperature Range(C): 0 to 70; Type: Binary; Code_JEDEC: MS-001; ComponentLink1Description: Manufacturer URL; ComponentLink1URL: http://www.ti.com/; ComponentLink2Description: Datasheet; ComponentLink2URL: http://www.ti.com/lit/ds/symlink/sn74s163.pdf; ComponentLink3Description: Package Specification; ComponentLink3URL: http://www.ti.com/lit/ml/mpdi002c/mpdi002c.pdf
footprint N0016A (DIP, 16-Leads, Body 19.7x6.6mm, Pitch 2.54mm)
pins: 1 ~{CLR} (in), 2 CLK (in), 3 A (in), 4 B (in), 5 C (in), 6 D (in), 7 ENP (in), 8 GND (power), 9 ~{LOAD} (in), 10 ENT (in), 11 QD (out), 12 QC (out), 13 QB (out), 14 QA (out), 15 RCO (out), 16 VCC (power)

## SN74S283N
designator U?
4-Bit Binary Full Adders With Fast Carry, N0016A, TUBE; Generic Part Number: SN74S283; Manufacturer: Texas Instruments; PartNumber: SN74S283N; VCC(Min)(V): 4.75; VCC(Max)(V): 5.25; Output Type: CMOS; Inputs: 9; Function: Arithmetic; ICC @ Nom Voltage(Max)(mA): 160; Input Type: TTL; Bits(#): 4; F @ Nom Voltage(Max)(Mhz): 50; Rating: Catalog; Technology Family: S; Voltage(Nom)(V): 5; Schmitt Trigger: No; Output Drive (IOL/IOH)(Max)(mA): 20/-1; tpd @ Nom Voltage(Max)(ns): 18; DatasheetVersion: SDLS095A; PackageReference: N0016A; Supplier 1: Mouser; Supplier Part Number 1: 595-SN74S283N; Supplier 2: Digi-Key; Supplier Part Number 2: 296-34111-5-ND; Operating Temperature Range(C): 0 to 70; Type: Binary; Code_JEDEC: MS-001; ComponentLink1Description: Manufacturer URL; ComponentLink1URL: http://www.ti.com/; ComponentLink2Description: Datasheet; ComponentLink2URL: http://www.ti.com/lit/ds/symlink/sn74s283.pdf; ComponentLink3Description: Package Specification; ComponentLink3URL: http://www.ti.com/lit/ml/mpdi002c/mpdi002c.pdf
footprint N0016A (DIP, 16-Leads, Body 19.7x6.6mm, Pitch 2.54mm)
pins: 1 Σ2 (out), 2 B2 (in), 3 A2 (in), 4 Σ1 (out), 5 A1 (in), 6 B1 (in), 7 C0 (in), 8 GND (power), 9 C4 (out), 10 Σ4 (out), 11 B4 (in), 12 A4 (in), 13 Σ3 (out), 14 A3 (in), 15 B3 (in), 16 VCC (power)

## SN74S1050D
designator U?
12-Bit Schottky Barrier Diode Bus Termination Array, D0016A, TUBE; Generic Part Number: SN74S1050; Manufacturer: Texas Instruments; PartNumber: SN74S1050D; VCC(Min)(V): 4.75; VCC(Max)(V): 5.25; Output Type: TTL; Vf(Max)(V): 1.2; Bits(#): 12; F @ Nom Voltage(Max)(Mhz): 50; Technology Family: S; Voltage(Nom)(V): 5; tpd @ Nom Voltage(Max)(ns): 16; DatasheetVersion: SDLS015A; PackageReference: D0016A; Supplier 1: Mouser; Supplier Part Number 1: 595-SN74S1050D; Supplier 2: Digi-Key; Supplier Part Number 2: SN74S1050D-ND; Input Type: TTL; Operating Temperature Range(C): 0 to 70; Code_JEDEC: MS-012 variation AC; ComponentLink1Description: Manufacturer URL; ComponentLink1URL: http://www.ti.com/; ComponentLink2Description: Datasheet; ComponentLink2URL: http://www.ti.com/lit/ds/symlink/sn74s1050.pdf; ComponentLink3Description: Package Specification; ComponentLink3URL: http://www.ti.com/lit/ml/mpds178g/mpds178g.pdf
footprint D0016A_N (SOIC, 16-Leads, Body 10x4mm, Pitch 1.27mm, IPC Medium Density)
footprint D0016A_M (SOIC, 16-Leads, Body 10x4mm, Pitch 1.27mm, IPC Low Density)
footprint D0016A_L (SOIC, 16-Leads, Body 10x4mm, Pitch 1.27mm, IPC High Density)
pins: 1 D01, 2 D02, 3 D03, 4 GND, 5 GND, 6 D04, 7 D05, 8 D06, 9 D07, 10 D08, 11 D09, 12 GND, 13 GND, 14 D10, 15 D11, 16 D12

## SN74S1051D
designator U?
12-Bit Schottky Barrier Diode Bus-Termination Array, D0016A, TUBE; Generic Part Number: SN74S1051; Manufacturer: Texas Instruments; PartNumber: SN74S1051D; VCC(Min)(V): 4.75; VCC(Max)(V): 5.25; Output Type: TTL; Vf(Max)(V): 1.3; Bits(#): 12; F @ Nom Voltage(Max)(Mhz): 50; Technology Family: S; Voltage(Nom)(V): 5; tpd @ Nom Voltage(Max)(ns): 16; DatasheetVersion: SDLS018B; PackageReference: D0016A; Supplier 1: Mouser; Supplier Part Number 1: 595-SN74S1051D; Supplier 2: Digi-Key; Supplier Part Number 2: 296-3849-5-ND; Input Type: TTL; Operating Temperature Range(C): 0 to 70; Code_JEDEC: MS-012 variation AC; ComponentLink1Description: Manufacturer URL; ComponentLink1URL: http://www.ti.com/; ComponentLink2Description: Datasheet; ComponentLink2URL: http://www.ti.com/lit/ds/symlink/sn74s1051.pdf; ComponentLink3Description: Package Specification; ComponentLink3URL: http://www.ti.com/lit/ml/mpds178g/mpds178g.pdf
footprint D0016A_N (SOIC, 16-Leads, Body 10x4mm, Pitch 1.27mm, IPC Medium Density)
footprint D0016A_M (SOIC, 16-Leads, Body 10x4mm, Pitch 1.27mm, IPC Low Density)
footprint D0016A_L (SOIC, 16-Leads, Body 10x4mm, Pitch 1.27mm, IPC High Density)
pins: 1 VCC, 2 D01, 3 D02, 4 D03, 5 D04, 6 D05, 7 D06, 8 GND, 9 GND, 10 D07, 11 D08, 12 D09, 13 D10, 14 D11, 15 D12, 16 VCC

## SN74S1051DR
designator U?
12-Bit Schottky Barrier Diode Bus-Termination Array, D0016A, LARGE T&R; Generic Part Number: SN74S1051; Manufacturer: Texas Instruments; PartNumber: SN74S1051DR; VCC(Min)(V): 4.75; VCC(Max)(V): 5.25; Output Type: TTL; Vf(Max)(V): 1.3; Bits(#): 12; F @ Nom Voltage(Max)(Mhz): 50; Technology Family: S; Voltage(Nom)(V): 5; tpd @ Nom Voltage(Max)(ns): 16; DatasheetVersion: SDLS018B; PackageReference: D0016A; Supplier 1: Mouser; Supplier Part Number 1: 595-SN74S1051DR; Supplier 2: Digi-Key; Supplier Part Number 2: 296-14193-2-ND; Supplier 3: Digi-Key; Supplier Part Number 3: 296-14193-1-ND; Supplier 4: Digi-Key; Supplier Part Number 4: 296-14193-6-ND; Input Type: TTL; Operating Temperature Range(C): 0 to 70; Code_JEDEC: MS-012 variation AC; ComponentLink1Description: Manufacturer URL; ComponentLink1URL: http://www.ti.com/; ComponentLink2Description: Datasheet; ComponentLink2URL: http://www.ti.com/lit/ds/symlink/sn74s1051.pdf; ComponentLink3Description: Package Specification; ComponentLink3URL: http://www.ti.com/lit/ml/mpds178g/mpds178g.pdf
footprint D0016A_N (SOIC, 16-Leads, Body 10x4mm, Pitch 1.27mm, IPC Medium Density)
footprint D0016A_M (SOIC, 16-Leads, Body 10x4mm, Pitch 1.27mm, IPC Low Density)
footprint D0016A_L (SOIC, 16-Leads, Body 10x4mm, Pitch 1.27mm, IPC High Density)
pins: 1 VCC, 2 D01, 3 D02, 4 D03, 5 D04, 6 D05, 7 D06, 8 GND, 9 GND, 10 D07, 11 D08, 12 D09, 13 D10, 14 D11, 15 D12, 16 VCC

## SN74S1051N
designator U?
12-Bit Schottky Barrier Diode Bus-Termination Array, N0016A, TUBE; Generic Part Number: SN74S1051; Manufacturer: Texas Instruments; PartNumber: SN74S1051N; VCC(Min)(V): 4.75; VCC(Max)(V): 5.25; Output Type: TTL; Vf(Max)(V): 1.3; Bits(#): 12; F @ Nom Voltage(Max)(Mhz): 50; Technology Family: S; Voltage(Nom)(V): 5; tpd @ Nom Voltage(Max)(ns): 16; DatasheetVersion: SDLS018B; PackageReference: N0016A; Supplier 1: Mouser; Supplier Part Number 1: 595-SN74S1051N; Supplier 2: Digi-Key; Supplier Part Number 2: 296-3850-5-ND; Input Type: TTL; Operating Temperature Range(C): 0 to 70; Code_JEDEC: MS-001; ComponentLink1Description: Manufacturer URL; ComponentLink1URL: http://www.ti.com/; ComponentLink2Description: Datasheet; ComponentLink2URL: http://www.ti.com/lit/ds/symlink/sn74s1051.pdf; ComponentLink3Description: Package Specification; ComponentLink3URL: http://www.ti.com/lit/ml/mpdi002c/mpdi002c.pdf
footprint N0016A (DIP, 16-Leads, Body 19.7x6.6mm, Pitch 2.54mm)
pins: 1 VCC, 2 D01, 3 D02, 4 D03, 5 D04, 6 D05, 7 D06, 8 GND, 9 GND, 10 D07, 11 D08, 12 D09, 13 D10, 14 D11, 15 D12, 16 VCC

## SN74S1051NSR
designator U?
12-Bit Schottky Barrier Diode Bus-Termination Array, NS0016A, LARGE T&R; Generic Part Number: SN74S1051; Manufacturer: Texas Instruments; PartNumber: SN74S1051NSR; VCC(Min)(V): 4.75; VCC(Max)(V): 5.25; Output Type: TTL; Vf(Max)(V): 1.3; Bits(#): 12; F @ Nom Voltage(Max)(Mhz): 50; Technology Family: S; Voltage(Nom)(V): 5; tpd @ Nom Voltage(Max)(ns): 16; DatasheetVersion: SDLS018B; PackageReference: NS0016A; Supplier 1: Mouser; Supplier Part Number 1: 595-SN74S1051NSR; Supplier 2: Digi-Key; Supplier Part Number 2: SN74S1051NSR-ND; Input Type: TTL; Operating Temperature Range(C): 0 to 70; ComponentLink1Description: Manufacturer URL; ComponentLink1URL: http://www.ti.com/; ComponentLink2Description: Datasheet; ComponentLink2URL: http://www.ti.com/lit/ds/symlink/sn74s1051.pdf; ComponentLink3Description: Package Specification; ComponentLink3URL: http://www.ti.com/lit/ml/msop002a/msop002a.pdf
footprint NS0016A_N (SOIC,16-Leads,Body 10.5x5.6mm,Pitch 1.27mm,IPC Medium Density)
footprint NS0016A_M (SOIC,16-Leads,Body 10.5x5.6mm,Pitch 1.27mm,IPC Low Density)
footprint NS0016A_L (SOIC,16-Leads,Body 10.5x5.6mm,Pitch 1.27mm,IPC High Density)
pins: 1 VCC, 2 D01, 3 D02, 4 D03, 5 D04, 6 D05, 7 D06, 8 GND, 9 GND, 10 D07, 11 D08, 12 D09, 13 D10, 14 D11, 15 D12, 16 VCC

## SN74S1051PW
designator U?
12-Bit Schottky Barrier Diode Bus-Termination Array, PW0016A, TUBE; Generic Part Number: SN74S1051; Manufacturer: Texas Instruments; PartNumber: SN74S1051PW; VCC(Min)(V): 4.75; VCC(Max)(V): 5.25; Output Type: TTL; Vf(Max)(V): 1.3; Bits(#): 12; F @ Nom Voltage(Max)(Mhz): 50; Technology Family: S; Voltage(Nom)(V): 5; tpd @ Nom Voltage(Max)(ns): 16; DatasheetVersion: SDLS018B; PackageReference: PW0016A; Supplier 1: Mouser; Supplier Part Number 1: 595-SN74S1051PW; Supplier 2: Digi-Key; Supplier Part Number 2: SN74S1051PW-ND; Input Type: TTL; Operating Temperature Range(C): 0 to 70; Code_JEDEC: MO-153; ComponentLink1Description: Manufacturer URL; ComponentLink1URL: http://www.ti.com/; ComponentLink2Description: Datasheet; ComponentLink2URL: http://www.ti.com/lit/ds/symlink/sn74s1051.pdf; ComponentLink3Description: Package Specification; ComponentLink3URL: http://www.ti.com/lit/ml/mpds361/mpds361.pdf
footprint PW0016A_N (SOP, 16-Leads, Body 5.1x4.5mm, Pitch 0.65mm, IPC Medium Density)
footprint PW0016A_M (SOP, 16-Leads, Body 5.1x4.5mm, Pitch 0.65mm, IPC Low Density)
footprint PW0016A_L (SOP, 16-Leads, Body 5.1x4.5mm, Pitch 0.65mm, IPC High Density)
pins: 1 VCC, 2 D01, 3 D02, 4 D03, 5 D04, 6 D05, 7 D06, 8 GND, 9 GND, 10 D07, 11 D08, 12 D09, 13 D10, 14 D11, 15 D12, 16 VCC